# EAGLE library part MAX9933 (library radu-collected)
Microchip MAX9933, RF power detector
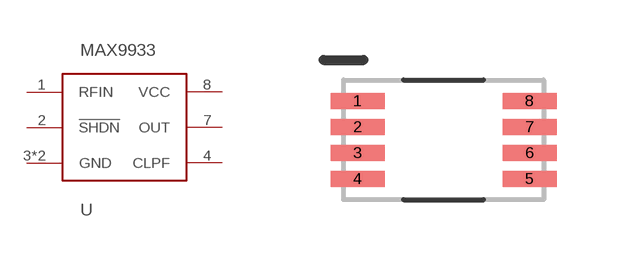
[diagram p13: symbol with the pads of UMAX8; footprint UMAX8]

Designator prefix U

## MAX9933BGUA+T, MAX9933EUA+T  [UMAX8]
1  RFIN  in
2  !SHDN  in
3  GND  pwr
4  CLPF  pas
5  GND  pwr
7  OUT  out
8  VCC  pwr

## Footprint UMAX8 (pad centres in mm)
Microchip 8-lead µMAX
smd 1.35 x 0.4: 1 -2.15,0.975; 2 -2.15,0.325; 3 -2.15,-0.325; 4 -2.15,-0.975; 5 2.15,-0.975; 6 2.15,-0.325; 7 2.15,0.325; 8 2.15,0.975